# EAGLE library part ISP1032LT (library AMD_Taxi)
Lattice ispCPLD
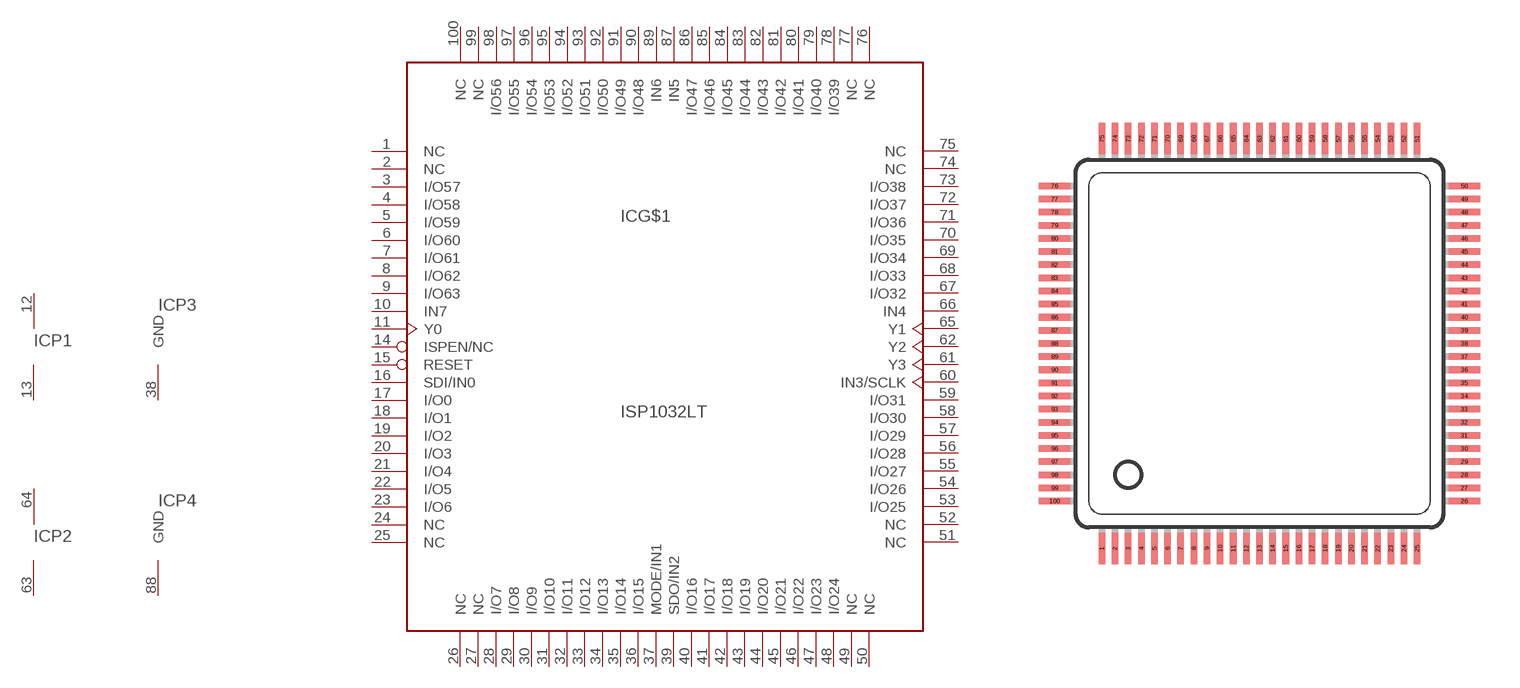
[diagram p3: symbol with the pads of TQFP100; footprint TQFP100]

Designator prefix IC; gates G$1=ISP1032L P3=PWGND P4=PWGND P1=PWRN P2=PWRN

## ISP1032LT  [TQFP100]
1  G$1:NC  nc
2  G$1:NC  nc
3  G$1:I/O57
4  G$1:I/O58
5  G$1:I/O59
6  G$1:I/O60
7  G$1:I/O61
8  G$1:I/O62
9  G$1:I/O63
10  G$1:IN7
11  G$1:Y0  in
12  P1:VCC  pwr
13  P1:GND  pwr
14  G$1:ISPEN/NC  in
15  G$1:RESET  in
16  G$1:SDI/IN0  in
17  G$1:I/O0
18  G$1:I/O1
19  G$1:I/O2
20  G$1:I/O3
21  G$1:I/O4
22  G$1:I/O5
23  G$1:I/O6
24  G$1:NC  nc
25  G$1:NC  nc
26  G$1:NC  nc
27  G$1:NC  nc
28  G$1:I/O7
29  G$1:I/O8
30  G$1:I/O9
31  G$1:I/O10
32  G$1:I/O11
33  G$1:I/O12
34  G$1:I/O13
35  G$1:I/O14
36  G$1:I/O15
37  G$1:MODE/IN1  in
38  P3:GND  pwr
39  G$1:SDO/IN2
40  G$1:I/O16
41  G$1:I/O17
42  G$1:I/O18
43  G$1:I/O19
44  G$1:I/O20
45  G$1:I/O21
46  G$1:I/O22
47  G$1:I/O23
48  G$1:I/O24
49  G$1:NC  nc
50  G$1:NC  nc
51  G$1:NC  nc
52  G$1:NC  nc
53  G$1:I/O25
54  G$1:I/O26
55  G$1:I/O27
56  G$1:I/O28
57  G$1:I/O29
58  G$1:I/O30
59  G$1:I/O31
60  G$1:IN3/SCLK  in
61  G$1:Y3  in
62  G$1:Y2  in
63  P2:GND  pwr
64  P2:VCC  pwr
65  G$1:Y1  in
66  G$1:IN4  in
67  G$1:I/O32
68  G$1:I/O33
69  G$1:I/O34
70  G$1:I/O35
71  G$1:I/O36
72  G$1:I/O37
73  G$1:I/O38
74  G$1:NC  nc
75  G$1:NC  nc
76  G$1:NC  nc
77  G$1:NC  nc
78  G$1:I/O39
79  G$1:I/O40
80  G$1:I/O41
81  G$1:I/O42
82  G$1:I/O43
83  G$1:I/O44
84  G$1:I/O45
85  G$1:I/O46
86  G$1:I/O47
87  G$1:IN5  in
88  P4:GND  pwr
89  G$1:IN6  in
90  G$1:I/O48
91  G$1:I/O49
92  G$1:I/O50
93  G$1:I/O51
94  G$1:I/O52
95  G$1:I/O53
96  G$1:I/O54
97  G$1:I/O55
98  G$1:I/O56
99  G$1:NC  nc
100  G$1:NC  nc

## Footprint TQFP100 (pad centres in mm)
smd 0.25 x 1.2: 1 -6,-7.8; 2 -5.5,-7.8; 3 -5,-7.8; 4 -4.5,-7.8; 5 -4,-7.8; 6 -3.5,-7.8; 7 -3,-7.8; 8 -2.5,-7.8; 9 -2,-7.8; 10 -1.5,-7.8; 11 -1,-7.8; 12 -0.5,-7.8; 13 0,-7.8; 14 0.5,-7.8; 15 1,-7.8; 16 1.5,-7.8; 17 2,-7.8; 18 2.5,-7.8; 19 3,-7.8; 20 3.5,-7.8; 21 4,-7.8; 22 4.5,-7.8; 23 5,-7.8; 24 5.5,-7.8; 25 6,-7.8; 51 6,7.8; 52 5.5,7.8; 53 5,7.8; 54 4.5,7.8; 55 4,7.8; 56 3.5,7.8; 57 3,7.8; 58 2.5,7.8; 59 2,7.8; 60 1.5,7.8; 61 1,7.8; 62 0.5,7.8; 63 0,7.8; 64 -0.5,7.8; 65 -1,7.8; 66 -1.5,7.8; 67 -2,7.8; 68 -2.5,7.8; 69 -3,7.8; 70 -3.5,7.8; 71 -4,7.8; 72 -4.5,7.8; 73 -5,7.8; 74 -5.5,7.8; 75 -6,7.8
smd 1.2 x 0.25: 26 7.8,-6; 27 7.8,-5.5; 28 7.8,-5; 29 7.8,-4.5; 30 7.8,-4; 31 7.8,-3.5; 32 7.8,-3; 33 7.8,-2.5; 34 7.8,-2; 35 7.8,-1.5; 36 7.8,-1; 37 7.8,-0.5; 38 7.8,0; 39 7.8,0.5; 40 7.8,1; 41 7.8,1.5; 42 7.8,2; 43 7.8,2.5; 44 7.8,3; 45 7.8,3.5; 46 7.8,4; 47 7.8,4.5; 48 7.8,5; 49 7.8,5.5; 50 7.8,6; 76 -7.8,6; 77 -7.8,5.5; 78 -7.8,5; 79 -7.8,4.5; 80 -7.8,4; 81 -7.8,3.5; 82 -7.8,3; 83 -7.8,2.5; 84 -7.8,2; 85 -7.8,1.5; 86 -7.8,1; 87 -7.8,0.5; 88 -7.8,0; 89 -7.8,-0.5; 90 -7.8,-1; 91 -7.8,-1.5; 92 -7.8,-2; 93 -7.8,-2.5; 94 -7.8,-3; 95 -7.8,-3.5; 96 -7.8,-4; 97 -7.8,-4.5; 98 -7.8,-5; 99 -7.8,-5.5; 100 -7.8,-6